# EAGLE library part SC4524C (library semtech)
Switching Regulator 28V 2A Step-Down
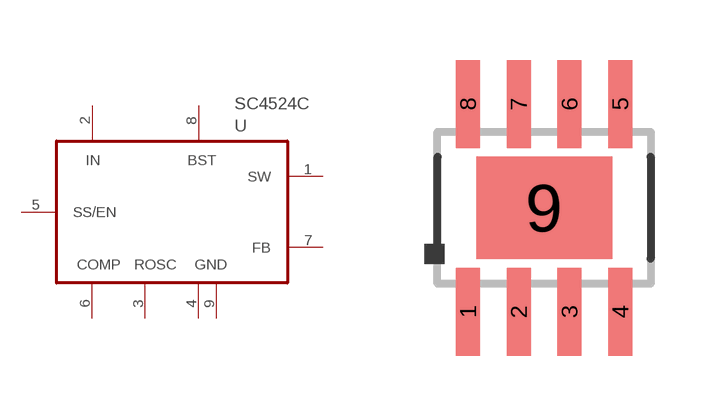
[diagram p2: symbol with the pads of SO08-EDP; footprint SO08-EDP]

Designator prefix U

## SC4524C  [SO08-EDP]
1  SW  out
2  IN  in
3  ROSC  in
4  GND  pwr
5  SS/EN  in
6  COMP  in
7  FB  in
8  BST  in
9  GND1  pwr

## Footprint SO08-EDP (pad centres in mm)
SMALL OUTLINE INTEGRATED CIRCUIT body 3.9 mm/JEDEC MS-012AA
smd 0.6 x 2.2: 1 -1.905,-2.6; 2 -0.635,-2.6; 3 0.635,-2.6; 4 1.905,-2.6; 5 1.905,2.6; 6 0.635,2.6; 7 -0.635,2.6; 8 -1.905,2.6
smd 3.4 x 2.56: 9 0,0